# Altium integrated library Gennum Audio Amplifier.IntLib: 39 symbols
Pins are listed as number, name and electrical type; pins without a type are passive.

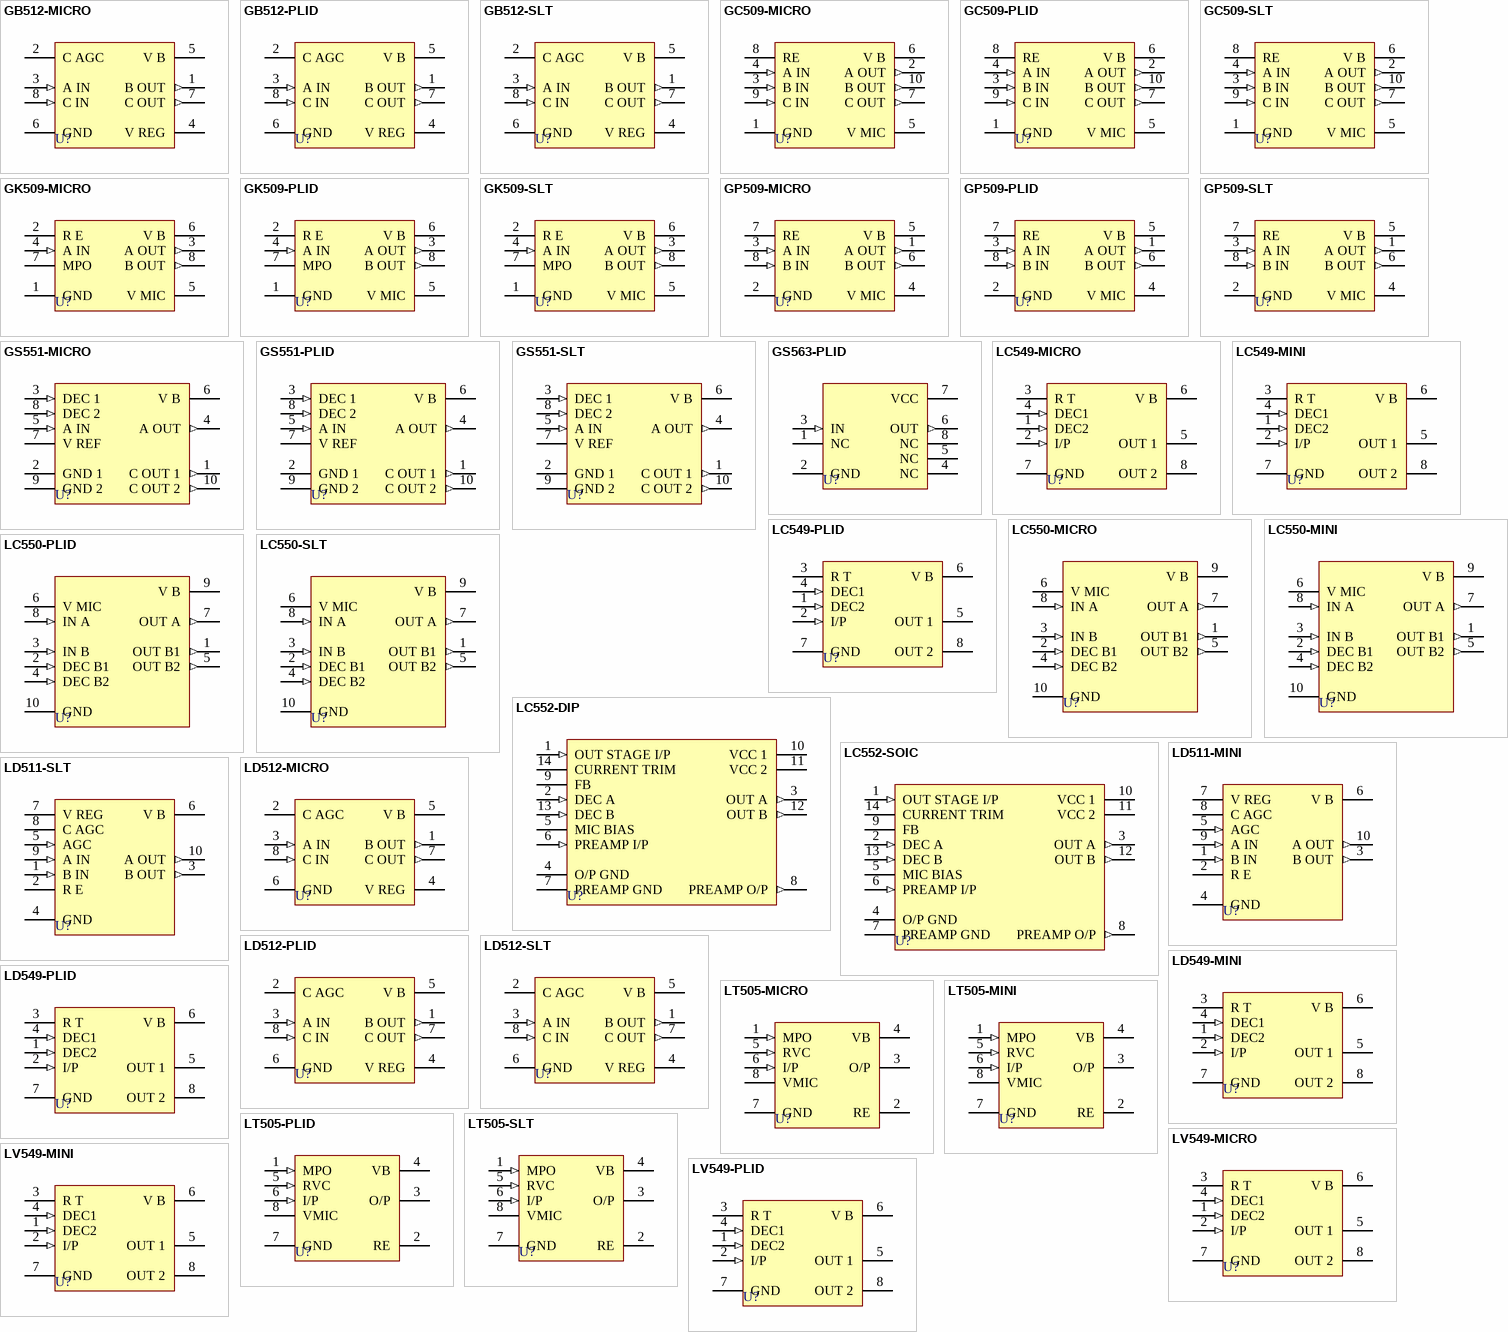
[diagram p0: symbols GB512-MICRO to LV549-PLID]

## GB512-MICRO
designator U?
Low Parts Compression Amplifier; Published: 8-Jun-2000; LatestRevisionDate: 04-Mar-2005; LatestRevisionNote: Stylized 3D Model Added.; DatasheetVersion: Apr-1998; PackageReference: MICRO8; Publisher: Altium Limited; PackageDescription: DFP; 8 Leads; Body 2.9 x 3.3 mm (LxW max); Pitch 0.635 mm; ComponentLink1Description: Manufacturer Link; ComponentLink1URL: http://www.gennum.com/index.html; ComponentLink2Description: Datasheet; ComponentLink2URL: http://www.gennum.com/hip/pdffiles/50075DOC.pdf
footprint MICRO8 (DFP; 8 Leads; Body 2.9 x 3.3 mm (LxW max); Pitch 0.635 mm)
3D model MICRO8 (DFP; 8 Leads; Body 2.9 x 3.3 mm (LxW max); Pitch 0.635 mm)
pins: 1 B OUT (out), 2 C AGC, 3 A IN (in), 4 V REG, 5 V B (power), 6 GND (power), 7 C OUT (out), 8 C IN (in)

## GB512-PLID
designator U?
Low Parts Compression Amplifier; Published: 8-Jun-2000; LatestRevisionDate: 17-Jul-2002; LatestRevisionNote: Re-released for DXP Platform.; DatasheetVersion: Apr-1998; PackageVersion: 1992; PackageReference: PLID8; Publisher: Altium Limited; PackageDescription: Small Outline; 8 C-Bend Leads; Body Width 3.2 mm; Pitch 0.635 mm; ComponentLink1Description: Manufacturer Link; ComponentLink1URL: http://www.gennum.com/index.html; ComponentLink2Description: Datasheet; ComponentLink2URL: http://www.gennum.com/hip/pdffiles/50075DOC.pdf
footprint PLID8 (Small Outline; 8 C-Bend Leads; Body Width 3.2 mm; Pitch 0.635 mm)
pins: 1 B OUT (out), 2 C AGC, 3 A IN (in), 4 V REG, 5 V B (power), 6 GND (power), 7 C OUT (out), 8 C IN (in)

## GB512-SLT
designator U?
Low Parts Compression Amplifier; Published: 8-Jun-2000; LatestRevisionDate: 17-Jul-2002; LatestRevisionNote: Re-released for DXP Platform.; DatasheetVersion: Apr-1998; PackageReference: SLT8; Publisher: Altium Limited; PackageDescription: Shrink DIP; 8 Stub Leads; Row Spacing 2.28 mm; Pitch 0.5 mm; ComponentLink1Description: Manufacturer Link; ComponentLink1URL: http://www.gennum.com/index.html; ComponentLink2Description: Datasheet; ComponentLink2URL: http://www.gennum.com/hip/pdffiles/50075DOC.pdf
footprint SLT8 (Shrink DIP; 8 Stub Leads; Row Spacing 2.28 mm; Pitch 0.5 mm)
pins: 1 B OUT (out), 2 C AGC, 3 A IN (in), 4 V REG, 5 V B (power), 6 GND (power), 7 C OUT (out), 8 C IN (in)

## GC509-MICRO
designator U?
Class A Amplifier with 3 Independent Gain Blocks; Published: 8-Jun-2000; LatestRevisionDate: 04-Mar-2005; LatestRevisionNote: Stylized 3D Model Added.; DatasheetVersion: Jul-1992; PackageReference: MICRO10; Publisher: Altium Limited; PackageDescription: DFP; 10 Leads; Body 3.6 x 3.3 mm (LxW max); Pitch 0.635 mm; ComponentLink1Description: Manufacturer Link; ComponentLink1URL: http://www.gennum.com/index.html; ComponentLink2Description: Datasheet; ComponentLink2URL: http://www.gennum.com/hip/pdffiles/51070DOC.pdf
footprint MICRO10 (DFP; 10 Leads; Body 3.6 x 3.3 mm (LxW max); Pitch 0.635 mm)
3D model MICRO10 (DFP; 10 Leads; Body 3.6 x 3.3 mm (LxW max); Pitch 0.635 mm)
pins: 1 GND (power), 2 A OUT (out), 3 B IN (in), 4 A IN (in), 5 V MIC, 6 V B (power), 7 C OUT (out), 8 RE, 9 C IN (in), 10 B OUT (out)

## GC509-PLID
designator U?
Class A Amplifier with 3 Independent Gain Blocks; Published: 8-Jun-2000; LatestRevisionDate: 17-Jul-2002; LatestRevisionNote: Re-released for DXP Platform.; DatasheetVersion: Jul-1992; PackageVersion: 1992; PackageReference: PLID10; Publisher: Altium Limited; PackageDescription: Small Outline; 10 C-Bend Leads; Body Width 3.2 mm; Pitch 0.635 mm; ComponentLink1Description: Manufacturer Link; ComponentLink1URL: http://www.gennum.com/index.html; ComponentLink2Description: Datasheet; ComponentLink2URL: http://www.gennum.com/hip/pdffiles/51070DOC.pdf
footprint PLID10 (Small Outline; 10 C-Bend Leads; Body Width 3.2 mm; Pitch 0.635 mm)
pins: 1 GND (power), 2 A OUT (out), 3 B IN (in), 4 A IN (in), 5 V MIC, 6 V B (power), 7 C OUT (out), 8 RE, 9 C IN (in), 10 B OUT (out)

## GC509-SLT
designator U?
Class A Amplifier with 3 Independent Gain Blocks; Published: 8-Jun-2000; LatestRevisionDate: 17-Jul-2002; LatestRevisionNote: Re-released for DXP Platform.; DatasheetVersion: Jul-1992; PackageReference: SLT10; Publisher: Altium Limited; PackageDescription: Shrink DIP; 10 Stub Leads; Row Spacing 2.28 mm; Pitch 0.5 mm; ComponentLink1Description: Manufacturer Link; ComponentLink1URL: http://www.gennum.com/index.html; ComponentLink2Description: Datasheet; ComponentLink2URL: http://www.gennum.com/hip/pdffiles/51070DOC.pdf
footprint SLT10 (Shrink DIP; 10 Stub Leads; Row Spacing 2.28 mm; Pitch 0.5 mm)
pins: 1 GND (power), 2 A OUT (out), 3 B IN (in), 4 A IN (in), 5 V MIC, 6 V B (power), 7 C OUT (out), 8 RE, 9 C IN (in), 10 B OUT (out)

## GK509-MICRO
designator U?
Class A Amplifier with 2 DC Coupled Gain Blocks & Schottky Diodes; Published: 8-Jun-2000; LatestRevisionDate: 04-Mar-2005; LatestRevisionNote: Stylized 3D Model Added.; DatasheetVersion: Feb-1996; PackageReference: MICRO8; Publisher: Altium Limited; PackageDescription: DFP; 8 Leads; Body 2.9 x 3.3 mm (LxW max); Pitch 0.635 mm; ComponentLink1Description: Manufacturer Link; ComponentLink1URL: http://www.gennum.com/index.html; ComponentLink2Description: Datasheet; ComponentLink2URL: http://www.gennum.com/hip/pdffiles/51070DOC.pdf
footprint MICRO8 (DFP; 8 Leads; Body 2.9 x 3.3 mm (LxW max); Pitch 0.635 mm)
3D model MICRO8 (DFP; 8 Leads; Body 2.9 x 3.3 mm (LxW max); Pitch 0.635 mm)
pins: 1 GND (power), 2 R E, 3 A OUT (out), 4 A IN (in), 5 V MIC, 6 V B (power), 7 MPO (oc), 8 B OUT (out)

## GK509-PLID
designator U?
Class A Amplifier with 2 DC Coupled Gain Blocks & Schottky Diodes; Published: 8-Jun-2000; LatestRevisionDate: 17-Jul-2002; LatestRevisionNote: Re-released for DXP Platform.; DatasheetVersion: Feb-1996; PackageVersion: 1992; PackageReference: PLID8; Publisher: Altium Limited; PackageDescription: Small Outline; 8 C-Bend Leads; Body Width 3.2 mm; Pitch 0.635 mm; ComponentLink1Description: Manufacturer Link; ComponentLink1URL: http://www.gennum.com/index.html; ComponentLink2Description: Datasheet; ComponentLink2URL: http://www.gennum.com/hip/pdffiles/51070DOC.pdf
footprint PLID8 (Small Outline; 8 C-Bend Leads; Body Width 3.2 mm; Pitch 0.635 mm)
pins: 1 GND (power), 2 R E, 3 A OUT (out), 4 A IN (in), 5 V MIC, 6 V B (power), 7 MPO (oc), 8 B OUT (out)

## GK509-SLT
designator U?
Class A Amplifier with 2 DC Coupled Gain Blocks & Schottky Diodes; Published: 8-Jun-2000; LatestRevisionDate: 17-Jul-2002; LatestRevisionNote: Re-released for DXP Platform.; DatasheetVersion: Feb-1996; PackageReference: SLT8; Publisher: Altium Limited; PackageDescription: Shrink DIP; 8 Stub Leads; Row Spacing 2.28 mm; Pitch 0.5 mm; ComponentLink1Description: Manufacturer Link; ComponentLink1URL: http://www.gennum.com/index.html; ComponentLink2Description: Datasheet; ComponentLink2URL: http://www.gennum.com/hip/pdffiles/51070DOC.pdf
footprint SLT8 (Shrink DIP; 8 Stub Leads; Row Spacing 2.28 mm; Pitch 0.5 mm)
pins: 1 GND (power), 2 R E, 3 A OUT (out), 4 A IN (in), 5 V MIC, 6 V B (power), 7 MPO (oc), 8 B OUT (out)

## GP509-MICRO
designator U?
Class A Amplifier with 2 Independent Gain Blocks; Published: 8-Jun-2000; LatestRevisionDate: 04-Mar-2005; LatestRevisionNote: Stylized 3D Model Added.; DatasheetVersion: Jan-1996; PackageReference: MICRO8; Publisher: Altium Limited; PackageDescription: DFP; 8 Leads; Body 2.9 x 3.3 mm (LxW max); Pitch 0.635 mm; ComponentLink1Description: Manufacturer Link; ComponentLink1URL: http://www.gennum.com/index.html; ComponentLink2Description: Datasheet; ComponentLink2URL: http://www.gennum.com/hip/pdffiles/51070DOC.pdf
footprint MICRO8 (DFP; 8 Leads; Body 2.9 x 3.3 mm (LxW max); Pitch 0.635 mm)
3D model MICRO8 (DFP; 8 Leads; Body 2.9 x 3.3 mm (LxW max); Pitch 0.635 mm)
pins: 1 A OUT (out), 2 GND (power), 3 A IN (in), 4 V MIC, 5 V B (power), 6 B OUT (out), 7 RE, 8 B IN (in)

## GP509-PLID
designator U?
Class A Amplifier with 2 Independent Gain Blocks; Published: 8-Jun-2000; LatestRevisionDate: 17-Jul-2002; LatestRevisionNote: Re-released for DXP Platform.; DatasheetVersion: Jan-1996; PackageVersion: 1992; PackageReference: PLID8; Publisher: Altium Limited; PackageDescription: Small Outline; 8 C-Bend Leads; Body Width 3.2 mm; Pitch 0.635 mm; ComponentLink1Description: Manufacturer Link; ComponentLink1URL: http://www.gennum.com/index.html; ComponentLink2Description: Datasheet; ComponentLink2URL: http://www.gennum.com/hip/pdffiles/51070DOC.pdf
footprint PLID8 (Small Outline; 8 C-Bend Leads; Body Width 3.2 mm; Pitch 0.635 mm)
pins: 1 A OUT (out), 2 GND (power), 3 A IN (in), 4 V MIC, 5 V B (power), 6 B OUT (out), 7 RE, 8 B IN (in)

## GP509-SLT
designator U?
Class A Amplifier with 2 Independent Gain Blocks; Published: 8-Jun-2000; LatestRevisionDate: 17-Jul-2002; LatestRevisionNote: Re-released for DXP Platform.; DatasheetVersion: Jan-1996; PackageReference: SLT8; Publisher: Altium Limited; PackageDescription: Shrink DIP; 8 Stub Leads; Row Spacing 2.28 mm; Pitch 0.5 mm; ComponentLink1Description: Manufacturer Link; ComponentLink1URL: http://www.gennum.com/index.html; ComponentLink2Description: Datasheet; ComponentLink2URL: http://www.gennum.com/hip/pdffiles/51070DOC.pdf
footprint SLT8 (Shrink DIP; 8 Stub Leads; Row Spacing 2.28 mm; Pitch 0.5 mm)
pins: 1 A OUT (out), 2 GND (power), 3 A IN (in), 4 V MIC, 5 V B (power), 6 B OUT (out), 7 RE, 8 B IN (in)

## GS551-MICRO
designator U?
High Power, Class B Output Stage; Published: 8-Jun-2000; LatestRevisionDate: 04-Mar-2005; LatestRevisionNote: Stylized 3D Model Added.; DatasheetVersion: Nov-1993; PackageReference: MICRO10; Publisher: Altium Limited; PackageDescription: DFP; 10 Leads; Body 3.6 x 3.3 mm (LxW max); Pitch 0.635 mm; ComponentLink1Description: Manufacturer Link; ComponentLink1URL: http://www.gennum.com/index.html; ComponentLink2Description: Datasheet; ComponentLink2URL: http://www.gennum.com/hip/pdffiles/51031DOC.pdf
footprint MICRO10 (DFP; 10 Leads; Body 3.6 x 3.3 mm (LxW max); Pitch 0.635 mm)
3D model MICRO10 (DFP; 10 Leads; Body 3.6 x 3.3 mm (LxW max); Pitch 0.635 mm)
pins: 1 C OUT 1 (out), 2 GND 1 (power), 3 DEC 1 (in), 4 A OUT (out), 5 A IN (in), 6 V B (power), 7 V REF, 8 DEC 2 (in), 9 GND 2 (power), 10 C OUT 2 (out)

## GS551-PLID
designator U?
High Power, Class B Output Stage; Published: 8-Jun-2000; LatestRevisionDate: 17-Jul-2002; LatestRevisionNote: Re-released for DXP Platform.; DatasheetVersion: Nov-1993; PackageVersion: 1992; PackageReference: PLID10; Publisher: Altium Limited; PackageDescription: Small Outline; 10 C-Bend Leads; Body Width 3.2 mm; Pitch 0.635 mm; ComponentLink1Description: Manufacturer Link; ComponentLink1URL: http://www.gennum.com/index.html; ComponentLink2Description: Datasheet; ComponentLink2URL: http://www.gennum.com/hip/pdffiles/51031DOC.pdf
footprint PLID10 (Small Outline; 10 C-Bend Leads; Body Width 3.2 mm; Pitch 0.635 mm)
pins: 1 C OUT 1 (out), 2 GND 1 (power), 3 DEC 1 (in), 4 A OUT (out), 5 A IN (in), 6 V B (power), 7 V REF, 8 DEC 2 (in), 9 GND 2 (power), 10 C OUT 2 (out)

## GS551-SLT
designator U?
High Power, Class B Output Stage; Published: 8-Jun-2000; LatestRevisionDate: 17-Jul-2002; LatestRevisionNote: Re-released for DXP Platform.; DatasheetVersion: Nov-1993; PackageReference: SLT10; Publisher: Altium Limited; PackageDescription: Shrink DIP; 10 Stub Leads; Row Spacing 2.28 mm; Pitch 0.5 mm; ComponentLink1Description: Manufacturer Link; ComponentLink1URL: http://www.gennum.com/index.html; ComponentLink2Description: Datasheet; ComponentLink2URL: http://www.gennum.com/hip/pdffiles/51031DOC.pdf
footprint SLT10 (Shrink DIP; 10 Stub Leads; Row Spacing 2.28 mm; Pitch 0.5 mm)
pins: 1 C OUT 1 (out), 2 GND 1 (power), 3 DEC 1 (in), 4 A OUT (out), 5 A IN (in), 6 V B (power), 7 V REF, 8 DEC 2 (in), 9 GND 2 (power), 10 C OUT 2 (out)

## GS563-PLID
designator U?
Sigle Stage Inverting Amplifier; Published: 8-Jun-2000; LatestRevisionDate: 17-Jul-2002; LatestRevisionNote: Re-released for DXP Platform.; DatasheetVersion: May-1998; PackageVersion: 1992; PackageReference: PLID8; Publisher: Altium Limited; PackageDescription: Small Outline; 8 C-Bend Leads; Body Width 3.2 mm; Pitch 0.635 mm; ComponentLink1Description: Manufacturer Link; ComponentLink1URL: http://www.gennum.com/index.html; ComponentLink2Description: Datasheet; ComponentLink2URL: http://www.gennum.com/hip/pdffiles/52067DOC.pdf
footprint PLID8 (Small Outline; 8 C-Bend Leads; Body Width 3.2 mm; Pitch 0.635 mm)
pins: 1 NC, 2 GND (power), 3 IN (in), 4 NC, 5 NC, 6 OUT (out), 7 VCC (power), 8 NC

## LC549-MICRO
designator U?
High Power Class B Output Stage; Published: 8-Jun-2000; LatestRevisionDate: 04-Mar-2005; LatestRevisionNote: Stylized 3D Model Added.; DatasheetVersion: Jan-1996; PackageReference: MICRO8; Publisher: Altium Limited; PackageDescription: DFP; 8 Leads; Body 2.9 x 3.3 mm (LxW max); Pitch 0.635 mm; ComponentLink1Description: Manufacturer Link; ComponentLink1URL: http://www.gennum.com/index.html; ComponentLink2Description: Datasheet; ComponentLink2URL: http://www.gennum.com/hip/pdffiles/50025DOC.pdf
footprint MICRO8 (DFP; 8 Leads; Body 2.9 x 3.3 mm (LxW max); Pitch 0.635 mm)
3D model MICRO8 (DFP; 8 Leads; Body 2.9 x 3.3 mm (LxW max); Pitch 0.635 mm)
pins: 1 DEC2 (in), 2 I/P (in), 3 R T, 4 DEC1 (in), 5 OUT 1 (oc), 6 V B (power), 7 GND (power), 8 OUT 2 (oc)

## LC549-MINI
designator U?
High Power Class B Output Stage; Published: 8-Jun-2000; LatestRevisionDate: 04-Mar-2005; LatestRevisionNote: Stylized 3D Model Added.; DatasheetVersion: Jan-1996; PackageReference: MINI8; Publisher: Altium Limited; PackageDescription: DFP; 8 Leads; Body 3.7 x 3.6 mm (LxW max); Pitch 1.27 mm; ComponentLink1Description: Manufacturer Link; ComponentLink1URL: http://www.gennum.com/index.html; ComponentLink2Description: Datasheet; ComponentLink2URL: http://www.gennum.com/hip/pdffiles/50025DOC.pdf
footprint MINI8 (DFP; 8 Leads; Body 3.7 x 3.6 mm (LxW max); Pitch 1.27 mm)
3D model MINI8 (DFP; 8 Leads; Body 3.7 x 3.6 mm (LxW max); Pitch 1.27 mm)
pins: 1 DEC2 (in), 2 I/P (in), 3 R T, 4 DEC1 (in), 5 OUT 1 (oc), 6 V B (power), 7 GND (power), 8 OUT 2 (oc)

## LC549-PLID
designator U?
High Power Class B Output Stage; Published: 8-Jun-2000; LatestRevisionDate: 17-Jul-2002; LatestRevisionNote: Re-released for DXP Platform.; DatasheetVersion: Jan-1996; PackageVersion: 1992; PackageReference: PLID8; Publisher: Altium Limited; PackageDescription: Small Outline; 8 C-Bend Leads; Body Width 3.2 mm; Pitch 0.635 mm; ComponentLink1Description: Manufacturer Link; ComponentLink1URL: http://www.gennum.com/index.html; ComponentLink2Description: Datasheet; ComponentLink2URL: http://www.gennum.com/hip/pdffiles/50025DOC.pdf
footprint PLID8 (Small Outline; 8 C-Bend Leads; Body Width 3.2 mm; Pitch 0.635 mm)
pins: 1 DEC2 (in), 2 I/P (in), 3 R T, 4 DEC1 (in), 5 OUT 1 (oc), 6 V B (power), 7 GND (power), 8 OUT 2 (oc)

## LC550-MICRO
designator U?
Medium Power Class B Amplifier; Published: 8-Jun-2000; LatestRevisionDate: 04-Mar-2005; LatestRevisionNote: Stylized 3D Model Added.; DatasheetVersion: Dec-1994; PackageReference: MICRO10; Publisher: Altium Limited; PackageDescription: DFP; 10 Leads; Body 3.6 x 3.3 mm (LxW max); Pitch 0.635 mm; ComponentLink1Description: Manufacturer Link; ComponentLink1URL: http://www.gennum.com/index.html; ComponentLink2Description: Datasheet; ComponentLink2URL: http://www.gennum.com/hip/pdffiles/27425DOC.pdf
footprint MICRO10 (DFP; 10 Leads; Body 3.6 x 3.3 mm (LxW max); Pitch 0.635 mm)
3D model MICRO10 (DFP; 10 Leads; Body 3.6 x 3.3 mm (LxW max); Pitch 0.635 mm)
pins: 1 OUT B1 (out), 2 DEC B1 (in), 3 IN B (in), 4 DEC B2 (in), 5 OUT B2 (out), 6 V MIC, 7 OUT A (out), 8 IN A (in), 9 V B (power), 10 GND (power)

## LC550-MINI
designator U?
Medium Power Class B Amplifier; Published: 8-Jun-2000; LatestRevisionDate: 04-Mar-2005; LatestRevisionNote: Stylized 3D Model Added.; DatasheetVersion: Dec-1994; PackageReference: MINI10; Publisher: Altium Limited; PackageDescription: DFP; 10 Leads; Body 3.7 x 3.6 mm (LxW max); Pitch 1.27 mm; ComponentLink1Description: Manufacturer Link; ComponentLink1URL: http://www.gennum.com/index.html; ComponentLink2Description: Datasheet; ComponentLink2URL: http://www.gennum.com/hip/pdffiles/27425DOC.pdf
footprint MINI10 (DFP; 10 Leads; Body 3.7 x 3.6 mm (LxW max); Pitch 1.27 mm)
3D model MINI10 (DFP; 10 Leads; Body 3.7 x 3.6 mm (LxW max); Pitch 1.27 mm)
pins: 1 OUT B1 (out), 2 DEC B1 (in), 3 IN B (in), 4 DEC B2 (in), 5 OUT B2 (out), 6 V MIC, 7 OUT A (out), 8 IN A (in), 9 V B (power), 10 GND (power)

## LC550-PLID
designator U?
Medium Power Class B Amplifier; Published: 8-Jun-2000; LatestRevisionDate: 17-Jul-2002; LatestRevisionNote: Re-released for DXP Platform.; DatasheetVersion: Dec-1994; PackageVersion: 1992; PackageReference: PLID10; Publisher: Altium Limited; PackageDescription: Small Outline; 10 C-Bend Leads; Body Width 3.2 mm; Pitch 0.635 mm; ComponentLink1Description: Manufacturer Link; ComponentLink1URL: http://www.gennum.com/index.html; ComponentLink2Description: Datasheet; ComponentLink2URL: http://www.gennum.com/hip/pdffiles/27425DOC.pdf
footprint PLID10 (Small Outline; 10 C-Bend Leads; Body Width 3.2 mm; Pitch 0.635 mm)
pins: 1 OUT B1 (out), 2 DEC B1 (in), 3 IN B (in), 4 DEC B2 (in), 5 OUT B2 (out), 6 V MIC, 7 OUT A (out), 8 IN A (in), 9 V B (power), 10 GND (power)

## LC550-SLT
designator U?
Medium Power Class B Amplifier; Published: 8-Jun-2000; LatestRevisionDate: 17-Jul-2002; LatestRevisionNote: Re-released for DXP Platform.; DatasheetVersion: Dec-1994; PackageReference: SLT10; Publisher: Altium Limited; PackageDescription: Shrink DIP; 10 Stub Leads; Row Spacing 2.28 mm; Pitch 0.5 mm; ComponentLink1Description: Manufacturer Link; ComponentLink1URL: http://www.gennum.com/index.html; ComponentLink2Description: Datasheet; ComponentLink2URL: http://www.gennum.com/hip/pdffiles/27425DOC.pdf
footprint SLT10 (Shrink DIP; 10 Stub Leads; Row Spacing 2.28 mm; Pitch 0.5 mm)
pins: 1 OUT B1 (out), 2 DEC B1 (in), 3 IN B (in), 4 DEC B2 (in), 5 OUT B2 (out), 6 V MIC, 7 OUT A (out), 8 IN A (in), 9 V B (power), 10 GND (power)

## LC552-DIP
designator U?
High Power Class B Amplifier; Published: 8-Jun-2000; LatestRevisionDate: 04-Mar-2005; LatestRevisionNote: Stylized 3D Model Added.; DatasheetVersion: Jul-1993; PackageVersion: 1999; PackageReference: PDIP14; Publisher: Altium Limited; PackageDescription: DIP; 14 Leads; Row Spacing 7.62 mm; Pitch 2.54 mm; ComponentLink1Description: Manufacturer Link; ComponentLink1URL: http://www.gennum.com/index.html; ComponentLink2Description: Datasheet; ComponentLink2URL: http://www.gennum.com/hip/pdffiles/50058DOC.pdf
footprint PDIP14 (DIP; 14 Leads; Row Spacing 7.62 mm; Pitch 2.54 mm)
3D model PDIP14 (DIP; 14 Leads; Row Spacing 7.62 mm; Pitch 2.54 mm)
pins: 1 OUT STAGE I/P (in), 2 DEC A (in), 3 OUT A (out), 4 O/P GND (power), 5 MIC BIAS, 6 PREAMP I/P (in), 7 PREAMP GND (power), 8 PREAMP O/P (out), 9 FB, 10 VCC 1 (power), 11 VCC 2 (power), 12 OUT B (out), 13 DEC B (in), 14 CURRENT TRIM

## LC552-SOIC
designator U?
High Power Class B Amplifier; Published: 8-Jun-2000; LatestRevisionDate: 13-Apr-2006; LatestRevisionNote: IPC-7351 Footprint Added.; DatasheetVersion: Jul-1993; PackageReference: SOIC14; Publisher: Altium Limited; PackageDescription: 14-Pin Small Outline Integrated Circuit 1.27 mm Pitch; Code_JEDEC: MS-012-AB; Code_IPC: SOIC127P600-14; ComponentLink1Description: Manufacturer Link; ComponentLink1URL: http://www.gennum.com/index.html; ComponentLink2Description: Datasheet; ComponentLink2URL: http://www.gennum.com/hip/pdffiles/50058DOC.pdf
footprint SOIC14_N (SOIC, 14-Leads, Body 8.7x3.9mm, Pitch 1.27mm, IPC Medium Density)
footprint SOIC14_L (SOIC, 14-Leads, Body 8.7x3.9mm, Pitch 1.27mm, IPC High Density)
footprint SOIC14_M (SOIC, 14-Leads, Body 8.7x3.9mm, Pitch 1.27mm, IPC Low Density)
3D model SOIC14 (14-Pin Small Outline Integrated Circuit 1.27 mm Pitch)
pins: 1 OUT STAGE I/P (in), 2 DEC A (in), 3 OUT A (out), 4 O/P GND (power), 5 MIC BIAS, 6 PREAMP I/P (in), 7 PREAMP GND (power), 8 PREAMP O/P (out), 9 FB, 10 VCC 1 (power), 11 VCC 2 (power), 12 OUT B (out), 13 DEC B (in), 14 CURRENT TRIM

## LD511-MINI
designator U?
Class A Compression Amplifier; Published: 8-Jun-2000; LatestRevisionDate: 04-Mar-2005; LatestRevisionNote: Stylized 3D Model Added.; DatasheetVersion: Jan-1996; PackageReference: MINI10; Publisher: Altium Limited; PackageDescription: DFP; 10 Leads; Body 3.7 x 3.6 mm (LxW max); Pitch 1.27 mm; ComponentLink1Description: Manufacturer Link; ComponentLink1URL: http://www.gennum.com/index.html; ComponentLink2Description: Datasheet; ComponentLink2URL: http://www.gennum.com/hip/pdffiles/50059DOC.pdf
footprint MINI10 (DFP; 10 Leads; Body 3.7 x 3.6 mm (LxW max); Pitch 1.27 mm)
3D model MINI10 (DFP; 10 Leads; Body 3.7 x 3.6 mm (LxW max); Pitch 1.27 mm)
pins: 1 B IN (in), 2 R E, 3 B OUT (out), 4 GND (power), 5 AGC (in), 6 V B (power), 7 V REG, 8 C AGC, 9 A IN (in), 10 A OUT (out)

## LD511-SLT
designator U?
Class A Compression Amplifier; Published: 8-Jun-2000; LatestRevisionDate: 17-Jul-2002; LatestRevisionNote: Re-released for DXP Platform.; DatasheetVersion: Jan-1996; PackageReference: SLT10; Publisher: Altium Limited; PackageDescription: Shrink DIP; 10 Stub Leads; Row Spacing 2.28 mm; Pitch 0.5 mm; ComponentLink1Description: Manufacturer Link; ComponentLink1URL: http://www.gennum.com/index.html; ComponentLink2Description: Datasheet; ComponentLink2URL: http://www.gennum.com/hip/pdffiles/50059DOC.pdf
footprint SLT10 (Shrink DIP; 10 Stub Leads; Row Spacing 2.28 mm; Pitch 0.5 mm)
pins: 1 B IN (in), 2 R E, 3 B OUT (out), 4 GND (power), 5 AGC (in), 6 V B (power), 7 V REG, 8 C AGC, 9 A IN (in), 10 A OUT (out)

## LD512-MICRO
designator U?
Low Parts Compression Amplifier; Published: 8-Jun-2000; LatestRevisionDate: 04-Mar-2005; LatestRevisionNote: Stylized 3D Model Added.; DatasheetVersion: Apr-1998; PackageReference: MICRO8; Publisher: Altium Limited; PackageDescription: DFP; 8 Leads; Body 2.9 x 3.3 mm (LxW max); Pitch 0.635 mm; ComponentLink1Description: Manufacturer Link; ComponentLink1URL: http://www.gennum.com/index.html; ComponentLink2Description: Datasheet; ComponentLink2URL: http://www.gennum.com/hip/pdffiles/50075DOC.pdf
footprint MICRO8 (DFP; 8 Leads; Body 2.9 x 3.3 mm (LxW max); Pitch 0.635 mm)
3D model MICRO8 (DFP; 8 Leads; Body 2.9 x 3.3 mm (LxW max); Pitch 0.635 mm)
pins: 1 B OUT (out), 2 C AGC, 3 A IN (in), 4 V REG, 5 V B (power), 6 GND (power), 7 C OUT (out), 8 C IN (in)

## LD512-PLID
designator U?
Low Parts Compression Amplifier; Published: 8-Jun-2000; LatestRevisionDate: 17-Jul-2002; LatestRevisionNote: Re-released for DXP Platform.; DatasheetVersion: Apr-1998; PackageVersion: 1992; PackageReference: PLID8; Publisher: Altium Limited; PackageDescription: Small Outline; 8 C-Bend Leads; Body Width 3.2 mm; Pitch 0.635 mm; ComponentLink1Description: Manufacturer Link; ComponentLink1URL: http://www.gennum.com/index.html; ComponentLink2Description: Datasheet; ComponentLink2URL: http://www.gennum.com/hip/pdffiles/50075DOC.pdf
footprint PLID8 (Small Outline; 8 C-Bend Leads; Body Width 3.2 mm; Pitch 0.635 mm)
pins: 1 B OUT (out), 2 C AGC, 3 A IN (in), 4 V REG, 5 V B (power), 6 GND (power), 7 C OUT (out), 8 C IN (in)

## LD512-SLT
designator U?
Low Parts Compression Amplifier; Published: 8-Jun-2000; LatestRevisionDate: 17-Jul-2002; LatestRevisionNote: Re-released for DXP Platform.; DatasheetVersion: Apr-1998; PackageReference: SLT8; Publisher: Altium Limited; PackageDescription: Shrink DIP; 8 Stub Leads; Row Spacing 2.28 mm; Pitch 0.5 mm; ComponentLink1Description: Manufacturer Link; ComponentLink1URL: http://www.gennum.com/index.html; ComponentLink2Description: Datasheet; ComponentLink2URL: http://www.gennum.com/hip/pdffiles/50075DOC.pdf
footprint SLT8 (Shrink DIP; 8 Stub Leads; Row Spacing 2.28 mm; Pitch 0.5 mm)
pins: 1 B OUT (out), 2 C AGC, 3 A IN (in), 4 V REG, 5 V B (power), 6 GND (power), 7 C OUT (out), 8 C IN (in)

## LD549-MINI
designator U?
High Power Class B Output Stage; Published: 8-Jun-2000; LatestRevisionDate: 04-Mar-2005; LatestRevisionNote: Stylized 3D Model Added.; DatasheetVersion: Jan-1996; PackageReference: MINI8; Publisher: Altium Limited; PackageDescription: DFP; 8 Leads; Body 3.7 x 3.6 mm (LxW max); Pitch 1.27 mm; ComponentLink1Description: Manufacturer Link; ComponentLink1URL: http://www.gennum.com/index.html; ComponentLink2Description: Datasheet; ComponentLink2URL: http://www.gennum.com/hip/pdffiles/50025DOC.pdf
footprint MINI8 (DFP; 8 Leads; Body 3.7 x 3.6 mm (LxW max); Pitch 1.27 mm)
3D model MINI8 (DFP; 8 Leads; Body 3.7 x 3.6 mm (LxW max); Pitch 1.27 mm)
pins: 1 DEC2 (in), 2 I/P (in), 3 R T, 4 DEC1 (in), 5 OUT 1 (oc), 6 V B (power), 7 GND (power), 8 OUT 2 (oc)

## LD549-PLID
designator U?
High Power Class B Output Stage; Published: 8-Jun-2000; LatestRevisionDate: 17-Jul-2002; LatestRevisionNote: Re-released for DXP Platform.; DatasheetVersion: Jan-1996; PackageVersion: 1992; PackageReference: PLID8; Publisher: Altium Limited; PackageDescription: Small Outline; 8 C-Bend Leads; Body Width 3.2 mm; Pitch 0.635 mm; ComponentLink1Description: Manufacturer Link; ComponentLink1URL: http://www.gennum.com/index.html; ComponentLink2Description: Datasheet; ComponentLink2URL: http://www.gennum.com/hip/pdffiles/50025DOC.pdf
footprint PLID8 (Small Outline; 8 C-Bend Leads; Body Width 3.2 mm; Pitch 0.635 mm)
pins: 1 DEC2 (in), 2 I/P (in), 3 R T, 4 DEC1 (in), 5 OUT 1 (oc), 6 V B (power), 7 GND (power), 8 OUT 2 (oc)

## LT505-MICRO
designator U?
Low Current, Peak Limiting Class A Amplifier; Published: 8-Jun-2000; LatestRevisionDate: 04-Mar-2005; LatestRevisionNote: Stylized 3D Model Added.; DatasheetVersion: Jun-1994; PackageReference: MICRO8; Publisher: Altium Limited; PackageDescription: DFP; 8 Leads; Body 2.9 x 3.3 mm (LxW max); Pitch 0.635 mm; ComponentLink1Description: Manufacturer Link; ComponentLink1URL: http://www.gennum.com/index.html; ComponentLink2Description: Datasheet; ComponentLink2URL: http://www.gennum.com/hip/pdffiles/50045DOC.pdf
footprint MICRO8 (DFP; 8 Leads; Body 2.9 x 3.3 mm (LxW max); Pitch 0.635 mm)
3D model MICRO8 (DFP; 8 Leads; Body 2.9 x 3.3 mm (LxW max); Pitch 0.635 mm)
pins: 1 MPO (in), 2 RE, 3 O/P (oc), 4 VB (power), 5 RVC (in), 6 I/P (in), 7 GND (power), 8 VMIC

## LT505-MINI
designator U?
Low Current, Peak Limiting Class A Amplifier; Published: 8-Jun-2000; LatestRevisionDate: 04-Mar-2005; LatestRevisionNote: Stylized 3D Model Added.; DatasheetVersion: Jun-1994; PackageReference: MINI8; Publisher: Altium Limited; PackageDescription: DFP; 8 Leads; Body 3.7 x 3.6 mm (LxW max); Pitch 1.27 mm; ComponentLink1Description: Manufacturer Link; ComponentLink1URL: http://www.gennum.com/index.html; ComponentLink2Description: Datasheet; ComponentLink2URL: http://www.gennum.com/hip/pdffiles/50045DOC.pdf
footprint MINI8 (DFP; 8 Leads; Body 3.7 x 3.6 mm (LxW max); Pitch 1.27 mm)
3D model MINI8 (DFP; 8 Leads; Body 3.7 x 3.6 mm (LxW max); Pitch 1.27 mm)
pins: 1 MPO (in), 2 RE, 3 O/P (oc), 4 VB (power), 5 RVC (in), 6 I/P (in), 7 GND (power), 8 VMIC

## LT505-PLID
designator U?
Low Current, Peak Limiting Class A Amplifier; Published: 8-Jun-2000; LatestRevisionDate: 17-Jul-2002; LatestRevisionNote: Re-released for DXP Platform.; DatasheetVersion: Jun-1994; PackageVersion: 1992; PackageReference: PLID8; Publisher: Altium Limited; PackageDescription: Small Outline; 8 C-Bend Leads; Body Width 3.2 mm; Pitch 0.635 mm; ComponentLink1Description: Manufacturer Link; ComponentLink1URL: http://www.gennum.com/index.html; ComponentLink2Description: Datasheet; ComponentLink2URL: http://www.gennum.com/hip/pdffiles/50045DOC.pdf
footprint PLID8 (Small Outline; 8 C-Bend Leads; Body Width 3.2 mm; Pitch 0.635 mm)
pins: 1 MPO (in), 2 RE, 3 O/P (oc), 4 VB (power), 5 RVC (in), 6 I/P (in), 7 GND (power), 8 VMIC

## LT505-SLT
designator U?
Low Current, Peak Limiting Class A Amplifier; Published: 8-Jun-2000; LatestRevisionDate: 17-Jul-2002; LatestRevisionNote: Re-released for DXP Platform.; DatasheetVersion: Jun-1994; PackageReference: SLT8; Publisher: Altium Limited; PackageDescription: Shrink DIP; 8 Stub Leads; Row Spacing 2.28 mm; Pitch 0.5 mm; ComponentLink1Description: Manufacturer Link; ComponentLink1URL: http://www.gennum.com/index.html; ComponentLink2Description: Datasheet; ComponentLink2URL: http://www.gennum.com/hip/pdffiles/50045DOC.pdf
footprint SLT8 (Shrink DIP; 8 Stub Leads; Row Spacing 2.28 mm; Pitch 0.5 mm)
pins: 1 MPO (in), 2 RE, 3 O/P (oc), 4 VB (power), 5 RVC (in), 6 I/P (in), 7 GND (power), 8 VMIC

## LV549-MICRO
designator U?
High Power Class B Output Stage; Published: 8-Jun-2000; LatestRevisionDate: 04-Mar-2005; LatestRevisionNote: Stylized 3D Model Added.; DatasheetVersion: Jan-1996; PackageReference: MICRO8; Publisher: Altium Limited; PackageDescription: DFP; 8 Leads; Body 2.9 x 3.3 mm (LxW max); Pitch 0.635 mm; ComponentLink1Description: Manufacturer Link; ComponentLink1URL: http://www.gennum.com/index.html; ComponentLink2Description: Datasheet; ComponentLink2URL: http://www.gennum.com/hip/pdffiles/50025DOC.pdf
footprint MICRO8 (DFP; 8 Leads; Body 2.9 x 3.3 mm (LxW max); Pitch 0.635 mm)
3D model MICRO8 (DFP; 8 Leads; Body 2.9 x 3.3 mm (LxW max); Pitch 0.635 mm)
pins: 1 DEC2 (in), 2 I/P (in), 3 R T, 4 DEC1 (in), 5 OUT 1 (oc), 6 V B (power), 7 GND (power), 8 OUT 2 (oc)

## LV549-MINI
designator U?
High Power Class B Output Stage; Published: 8-Jun-2000; LatestRevisionDate: 04-Mar-2005; LatestRevisionNote: Stylized 3D Model Added.; DatasheetVersion: Jan-1996; PackageReference: MINI8; Publisher: Altium Limited; PackageDescription: DFP; 8 Leads; Body 3.7 x 3.6 mm (LxW max); Pitch 1.27 mm; ComponentLink1Description: Manufacturer Link; ComponentLink1URL: http://www.gennum.com/index.html; ComponentLink2Description: Datasheet; ComponentLink2URL: http://www.gennum.com/hip/pdffiles/50025DOC.pdf
footprint MINI8 (DFP; 8 Leads; Body 3.7 x 3.6 mm (LxW max); Pitch 1.27 mm)
3D model MINI8 (DFP; 8 Leads; Body 3.7 x 3.6 mm (LxW max); Pitch 1.27 mm)
pins: 1 DEC2 (in), 2 I/P (in), 3 R T, 4 DEC1 (in), 5 OUT 1 (oc), 6 V B (power), 7 GND (power), 8 OUT 2 (oc)

## LV549-PLID
designator U?
High Power Class B Output Stage; Published: 8-Jun-2000; LatestRevisionDate: 17-Jul-2002; LatestRevisionNote: Re-released for DXP Platform.; DatasheetVersion: Jan-1996; PackageVersion: 1992; PackageReference: PLID8; Publisher: Altium Limited; PackageDescription: Small Outline; 8 C-Bend Leads; Body Width 3.2 mm; Pitch 0.635 mm; ComponentLink1Description: Manufacturer Link; ComponentLink1URL: http://www.gennum.com/index.html; ComponentLink2Description: Datasheet; ComponentLink2URL: http://www.gennum.com/hip/pdffiles/50025DOC.pdf
footprint PLID8 (Small Outline; 8 C-Bend Leads; Body Width 3.2 mm; Pitch 0.635 mm)
pins: 1 DEC2 (in), 2 I/P (in), 3 R T, 4 DEC1 (in), 5 OUT 1 (oc), 6 V B (power), 7 GND (power), 8 OUT 2 (oc)